# Altium footprint library LED_3mm.PcbLib: 1 footprints
Each footprint in its own frame and in the unit in brackets; x right, y up, seen from the top. Pads: shape width x height; smd on the part's side, far side on the other; paste and mask are expansions set on the pad; w line width, h text height; cw(c..) or ccw(c..) is an arc to the next point about the centre after c.
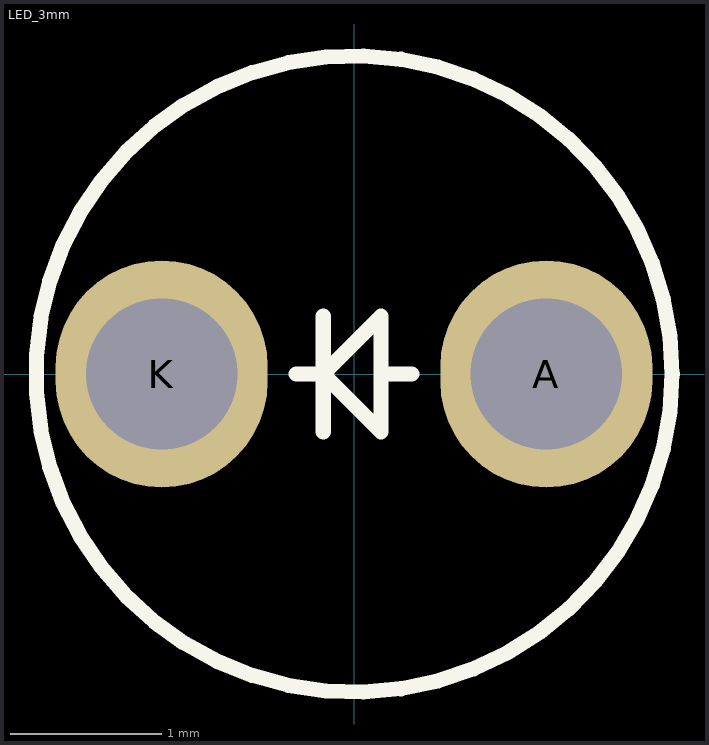
[diagram p0: the footprint, top view; thin cyan lines are the x and y axes]

## LED_3mm [mm]
pads (2):
  oval 1.4x1.5 hole 1: A(1.27,0) K(-1.27,0)
TopOverlay:
  circle w0.1: c0,0 r2.101
  lines w0.1: -0.381,0 -0.178,0 ; -0.203,-0.381 -0.203,0.051 ; -0.203,0.381 -0.203,0 ; 0.178,0 0.381,0 ; -0.203,0 0.178,0.381 0.178,-0.381 -0.203,0
3D body: height 5.5, standoff -3, extent -1.6,-1.9 1.9,1.9